# Altium schematic symbol library UCC27201A.SchLib: 1 symbol
Pins are listed as number, name and electrical type; pins without a type are passive.

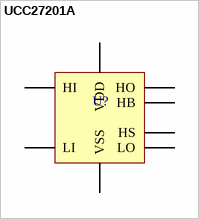
[diagram p0: symbol UCC27201A]

## UCC27201A
designator U?
High-Side/Low-Side Driver
pins: 1 VDD, 2 HB, 3 HO, 4 HS, 6 HI, 7 LI, 8 VSS, 9 LO